# Altium footprint library memo.PcbLib: 50 footprints (part 2 of 4)
Each footprint in its own frame and in the unit in brackets; x right, y up, seen from the top. Pads: shape width x height; smd on the part's side, far side on the other; paste and mask are expansions set on the pad; w line width, h text height; cw(c..) or ccw(c..) is an arc to the next point about the centre after c.
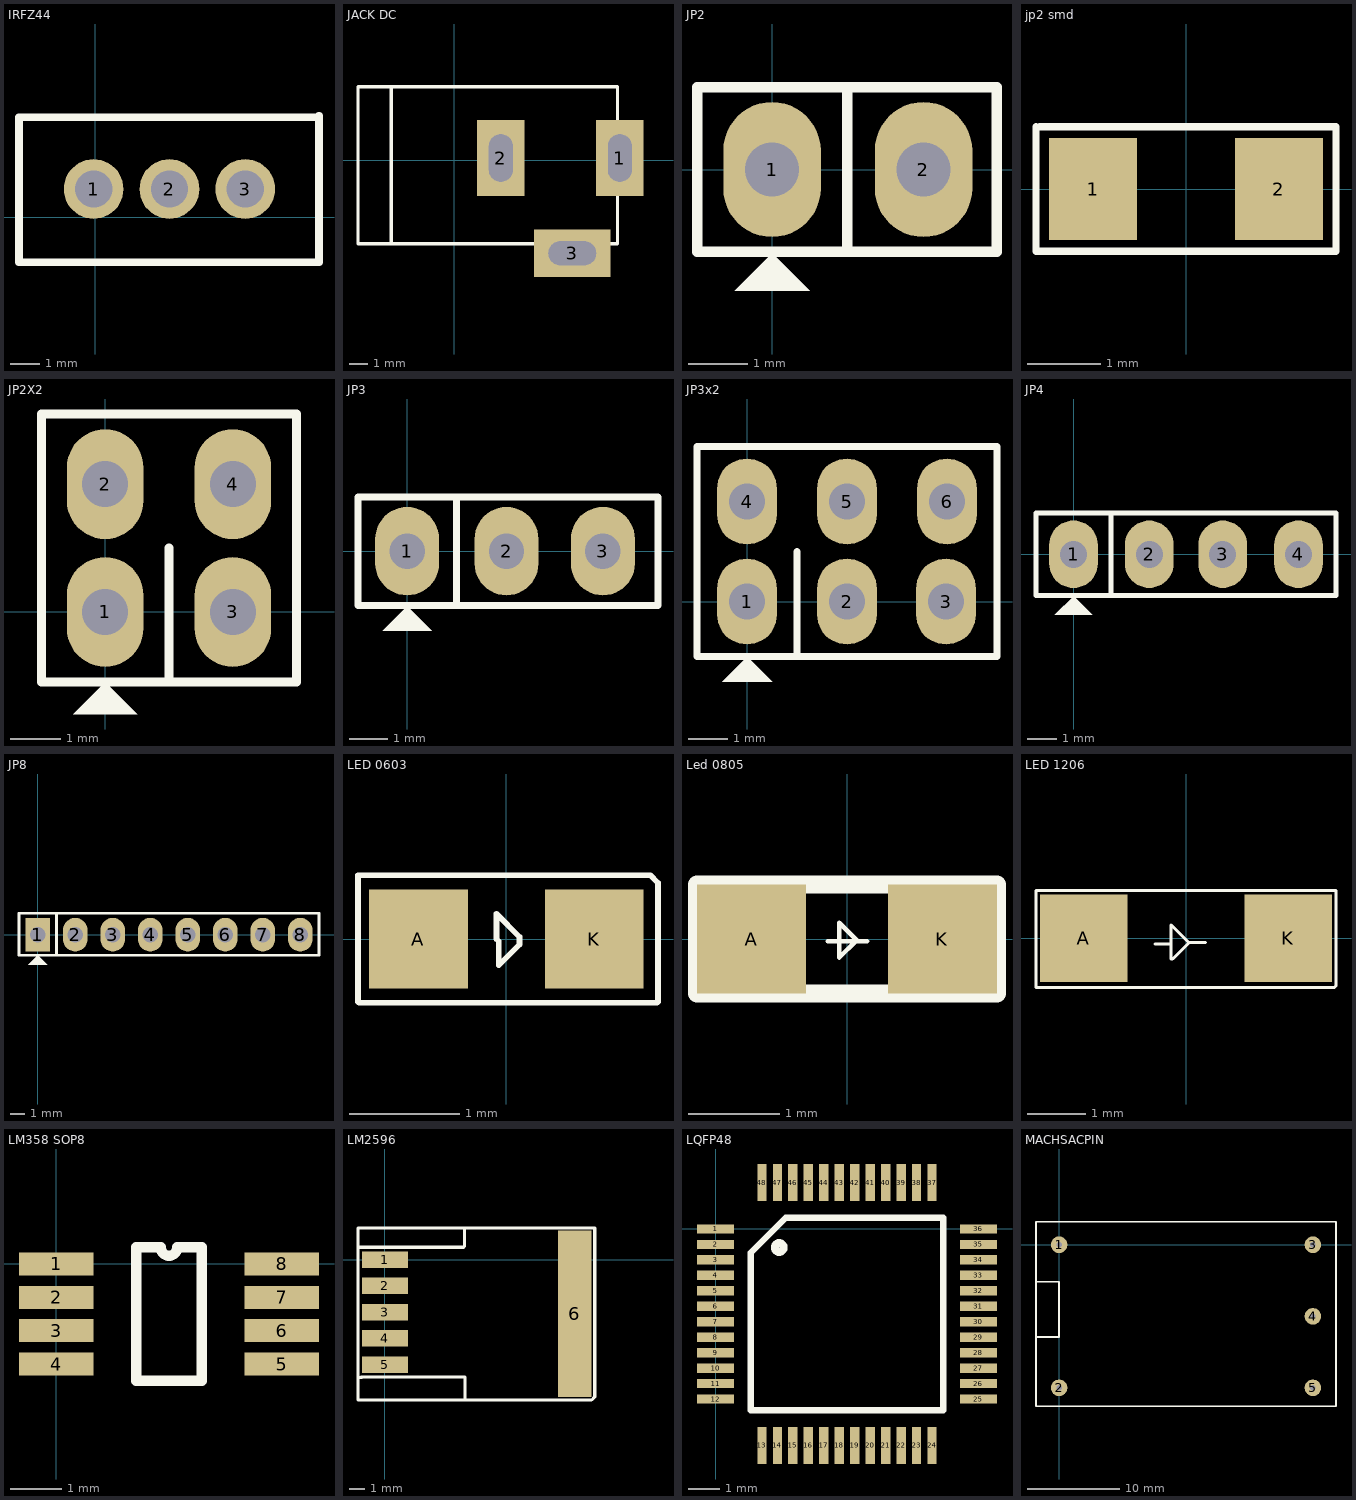
[diagram p1: the footprints below, top view; thin cyan lines are the x and y axes]

## IRFZ44 [mm]
pads (3):
  round 2 hole 1.25: 1(-0.05,0.95) 2(2.49,0.95) 3(5.03,0.95)
Top Overlay:
  lines w0.254: -2.55,-1.5 7.5,-1.5 7.5,3.4 7.45,3.35 -2.55,3.35 -2.55,-1.5

## JACK DC [mil]
pads (3):
  rect 100x160 hole 50 slot 100 at 90 deg: 1(348,5) 2(98,5)
  rect 160x100 hole 50 slot 100 at 0 deg: 3(248,-195)
Top Overlay:
  lines w7: -132,-175 -132,155 ; -202,-175 -202,155 343,155 343,-175 -202,-175
3D body: height 433.67, standoff -137.2, extent -187.35,-200.12 357,174.12

## JP2 [mil]
pads (2):
  oval 65x90 hole 36: 1(0,0) 2(101,0)
Top Overlay:
  region: 0,-56 -25,-81 25,-81
  lines w7: 50,-55 50,55 ; -50,-55 -50,55 150,55 150,-55 -50,-55
3D body: height 354.33, standoff -86.61, extent -48.03,-50 148.03,48.43

## jp2 smd [mm]
pads (2):
  rect 1.2x1.4 smd: 1(-1.27,0) 2(1.27,0)
Top Overlay:
  lines w0.1: -2.05,0.85 -2.05,-0.85 2.05,-0.85 2.05,0.85 -2,0.85

## JP2X2 [mil]
pads (4):
  oval 60x86 hole 36: 1(0,0) 2(0,100) 3(100,0) 4(100,100)
Top Overlay:
  region: 0,-55 -25,-80 25,-80
  lines w7: 50,-55 50,50 ; -50,-55 -50,155 150,155 150,-55 -50,-55
3D body: height 366.14, standoff -86.61, extent -49.99,-49.99 150.01,150.01

## JP3 [mil]
pads (3):
  oval 65x90 hole 36: 1(0,0) 2(101,0) 3(199,0)
Top Overlay:
  region: 0,-56 -25,-81 25,-81
  lines w7: 50,-55 50,55 ; -50,-55 -50,55 255,55 255,-55 -50,-55
3D body: height 354.33, standoff -86.61, extent -46.05,-49.04 253.94,49.32

## JP3x2 [mil]
pads (6):
  oval 60x86 hole 36: 1(0,0) 2(100,0) 3(199,0) 4(0,100) 5(100,100) 6(200,100)
Top Overlay:
  region: 0,-55 -25,-80 25,-80
  lines w7: 50,-55 50,50 ; -50,-55 -50,50 -50,155 250,155 250,-55 -50,-55
3D body: height 366.14, standoff -86.61, extent -49.99,-49.99 250.01,150.01

## JP4 [mil]
pads (4):
  oval 65x90 hole 36: 1(0,0) 2(101,0) 3(199,0) 4(300,0)
Top Overlay:
  region: 0,-56 -25,-81 25,-81
  lines w7: 50,-55 50,55 ; -50,-55 -50,55 350,55 350,-55 -50,-55
3D body: height 354.33, standoff -86.61, extent -48.03,-48.43 348.03,50

## JP8 [mil]
pads (8):
  rect 65x90 hole 42: 1(0,0)
  oval 65x90 hole 42: 2(100,0) 3(200,0) 4(300,0) 5(400,0) 6(500,0) 7(600,0) 8(700,0)
Top Overlay:
  region: 0,-55 -25,-80 25,-80
  lines w7: 50,-55 50,55 ; -50,-55 -50,-21 -50,23 -50,57 750,57 750,-55 -50,-55
3D body: height 354.33, standoff -86.61, extent -48.04,-50 748.03,48.43

## LED 0603 [mm]
pads (2):
  rect 0.9x0.9 smd: A(-0.8,0) K(0.8,0)
Top Overlay:
  lines w0.051: -1.35,-0.57 -1.35,0.58 1.31,0.58 1.38,0.51 1.38,-0.57 1.37,-0.58 -1.34,-0.58 -1.35,-0.57 ; -0.09,0 -0.09,0.23 0.12,0.02 0.12,-0.05 -0.07,-0.24 -0.07,-0.02 -0.09,0

## Led 0805 [mm]
pads (2):
  rect 1.2x1.2 smd: A(-1.05,0) K(1.05,0)
Top Overlay:
  lines w0.051: -0.21,-0.025 0.22,-0.025 ; -0.083,-0.203 0.095,-0.025 0.12,-0.025 -0.083,0.178 -0.083,-0.203
  lines w0.2: -1.65,-0.6 1.65,-0.6 1.65,0.6 -1.65,0.6 -1.65,0 -1.65,-0.6

## LED 1206 [mm]
pads (2):
  rect 1.5x1.5 smd: A(-1.75,0) K(1.75,0)
Top Overlay:
  lines w0.051: -0.533,-0.102 -0.254,-0.102 ; 0.33,-0.076 0.051,-0.076 ; 0.051,-0.076 -0.229,-0.356 -0.254,-0.356 -0.254,0.229 0.051,-0.076 ; -2.565,-0.838 -2.565,0.813 2.565,0.813 2.565,-0.813 2.54,-0.838 -2.565,-0.838

## LM358 SOP8 [mm]
pads (8):
  rect 1.45x0.45 smd: 1(0,0) 2(0,-0.65) 3(0,-1.3) 4(0,-1.95) 5(4.4,-1.95) 6(4.4,-1.3) 7(4.4,-0.65) 8(4.4,0)
Top Overlay:
  lines w0.2: 1.56,-2.275 1.56,0.325 2.037,0.325 ccw(c2.2,0.325) 2.362,0.325 2.84,0.325 2.84,-2.275 1.56,-2.275

## LM2596 [mm]
pads (6):
  rect 3x1.07 smd: 1(0,0) 2(0,-1.7) 3(0,-3.4) 4(0,-5.1) 5(0,-6.8)
  rect 2.16x10.8 smd: 6(12.3,-3.5)
Top Overlay:
  lines w0.2: -1.75,-7.65 -1.5,-7.65 ; -1.75,0.8 -1.05,0.8 ; -1.55,-7.6 -1.15,-7.6 5.2,-7.6 5.2,-9 ; -1.1,0.8 5.1,0.8 5.15,0.85 5.15,2 ; -1.75,-9.1 13.4,-9.1 13.6,-8.9 13.6,2.05 -1.75,2.05 -1.75,-9.1
3D body: height 5.18, standoff 0.38, extent -1.335,-8.5 14.335,1.5

## LQFP48 [mm]
pads (48):
  rect 1.2x0.3 smd: 1(0,0) 2(0,-0.5) 3(0,-1) 4(0,-1.5) 5(0,-2) 6(0,-2.5) 7(0,-3) 8(0,-3.5) 9(0,-4) 10(0,-4.5) 11(0,-5) 12(0,-5.5) 25(8.5,-5.5) 26(8.5,-5) 27(8.5,-4.5) 28(8.5,-4) 29(8.5,-3.5) 30(8.5,-3) 31(8.5,-2.5) 32(8.5,-2) 33(8.5,-1.5) 34(8.5,-1) 35(8.5,-0.5) 36(8.5,0)
  rect 0.3x1.2 smd: 13(1.5,-7) 14(2,-7) 15(2.5,-7) 16(3,-7) 17(3.5,-7) 18(4,-7) 19(4.5,-7) 20(5,-7) 21(5.5,-7) 22(6,-7) 23(6.5,-7) 24(7,-7) 37(7,1.5) 38(6.5,1.5) 39(6,1.5) 40(5.5,1.5) 41(5,1.5) 42(4.5,1.5) 43(4,1.5) 44(3.5,1.5) 45(3,1.5) 46(2.5,1.5) 47(2,1.5) 48(1.5,1.5)
Top Overlay:
  circle w0.254: c2.059,-0.6 r0.141
  lines w0.2: 1.135,-5.865 7.365,-5.865 7.365,0.365 2.27,0.365 1.135,-0.77 1.135,-5.865

## MACHSACPIN [mm]
pads (5):
  round 1.8 hole 0.6: 1(0,0) 2(0,-15.5) 3(27.5,0) 4(27.5,-7.75) 5(27.5,-15.5)
Top Overlay:
  lines w0.2: -2.5,-10 0,-10 0,-4 -2.5,-4 ; -2.5,-17.5 -2.5,2.5 30,2.5 30,-17.5 -2.5,-17.5
3D body: height 4.2, standoff -0.4, extent -0.787,-16.118 28.487,0.9